# Altium schematic symbol library ZHCS1000TA.Schlib: 1 symbol
Pins are listed as number, name and electrical type; pins without a type are passive.

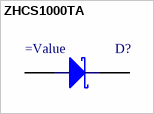
[diagram p0: symbol ZHCS1000TA]

## ZHCS1000TA
designator D?
=Description
pins: 1 C, 3 A